# Altium schematic symbol library SHARP-LH28F008BJT-TTLZB.schlib: 1 symbol
Pins are listed as number, name and electrical type; pins without a type are passive.

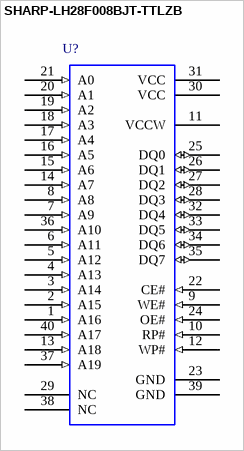
[diagram p0: symbol SHARP-LH28F008BJT-TTLZB]

## SHARP-LH28F008BJT-TTLZB
designator U?  (value not drawn)
Flash Memory 8Mbit (1Mbitx8); CircuitryPartsPN: SHARP-LH28F008BJT-TTLZB; ManufacturerPN: LH28F008BJT-TTLZB; Manufacturer: Sharp Microelectronics; CategoryI: Integrated Circuits (ICs); SchematicRev: A; DesignedBy: Circuitry Parts; MfgURL: http://www.sharpsma.com/; PackageName: TSOP40; FootprintName: *; CategoryII: Memory; Value: *; DesignedOn: 7/19/2005 11:03:48 AM
pins: 1 A16 (in), 2 A15 (in), 3 A14 (in), 4 A13 (in), 5 A12 (in), 6 A11 (in), 7 A9 (in), 8 A8 (in), 9 WE# (in), 10 RP# (in), 11 VCCW (power), 12 WP# (in), 13 A18 (in), 14 A7 (in), 15 A6 (in), 16 A5 (in), 17 A4 (in), 18 A3 (in), 19 A2 (in), 20 A1 (in), 21 A0 (in), 22 CE# (in), 23 GND (power), 24 OE# (in), 25 DQ0 (io), 26 DQ1 (io), 27 DQ2 (io), 28 DQ3 (io), 29 NC, 30 VCC (power), 31 VCC (power), 32 DQ4 (io), 33 DQ5 (io), 34 DQ6 (io), 35 DQ7 (io), 36 A10 (in), 37 A19 (in), 38 NC, 39 GND (power), 40 A17 (in)